# EAGLE library part BSS138DW (library VL53L0X_ToF_Sensor)
NTJD5121N, Dual N−Channel with ESD Power MOSFET 60 V, 295 mA, Dual N−Channel with ESD Protection, SC−88 Source: Datasheet <http://www.farnell.com/datasheets/1708304.pdf>
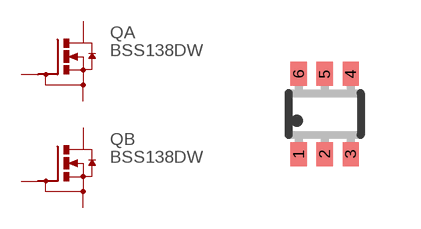
[diagram p3: symbol with the pads of SOT363; footprint SOT363]

Designator prefix Q; gates A=N−CHANNEL B=N−CHANNEL

## BSS138DW (MF: ON SEMICONDUCTOR; MPN: NTJD5121NT1G; OC_FARNELL: 2317611; OC_NEWARK: unknown)  [SOT363]
1  A:S  pas
2  A:G  pas
3  B:D  pas
4  B:S  pas
5  B:G  pas
6  A:D  pas

## Footprint SOT363 (pad centres in mm)
SOT-363-6 (SC−88) Source: NTJD5121NT1G Datasheet <http://www.farnell.com/datasheets/461166.pdf>
smd 0.4 x 0.6: 1 -0.65,-1; 2 0,-1; 3 0.65,-1; 4 0.65,1; 5 0,1; 6 -0.65,1